# Altium footprint library PcbLib1.PcbLib: 12 footprints
Each footprint in its own frame and in the unit in brackets; x right, y up, seen from the top. Pads: shape width x height; smd on the part's side, far side on the other; paste and mask are expansions set on the pad; w line width, h text height; cw(c..) or ccw(c..) is an arc to the next point about the centre after c.
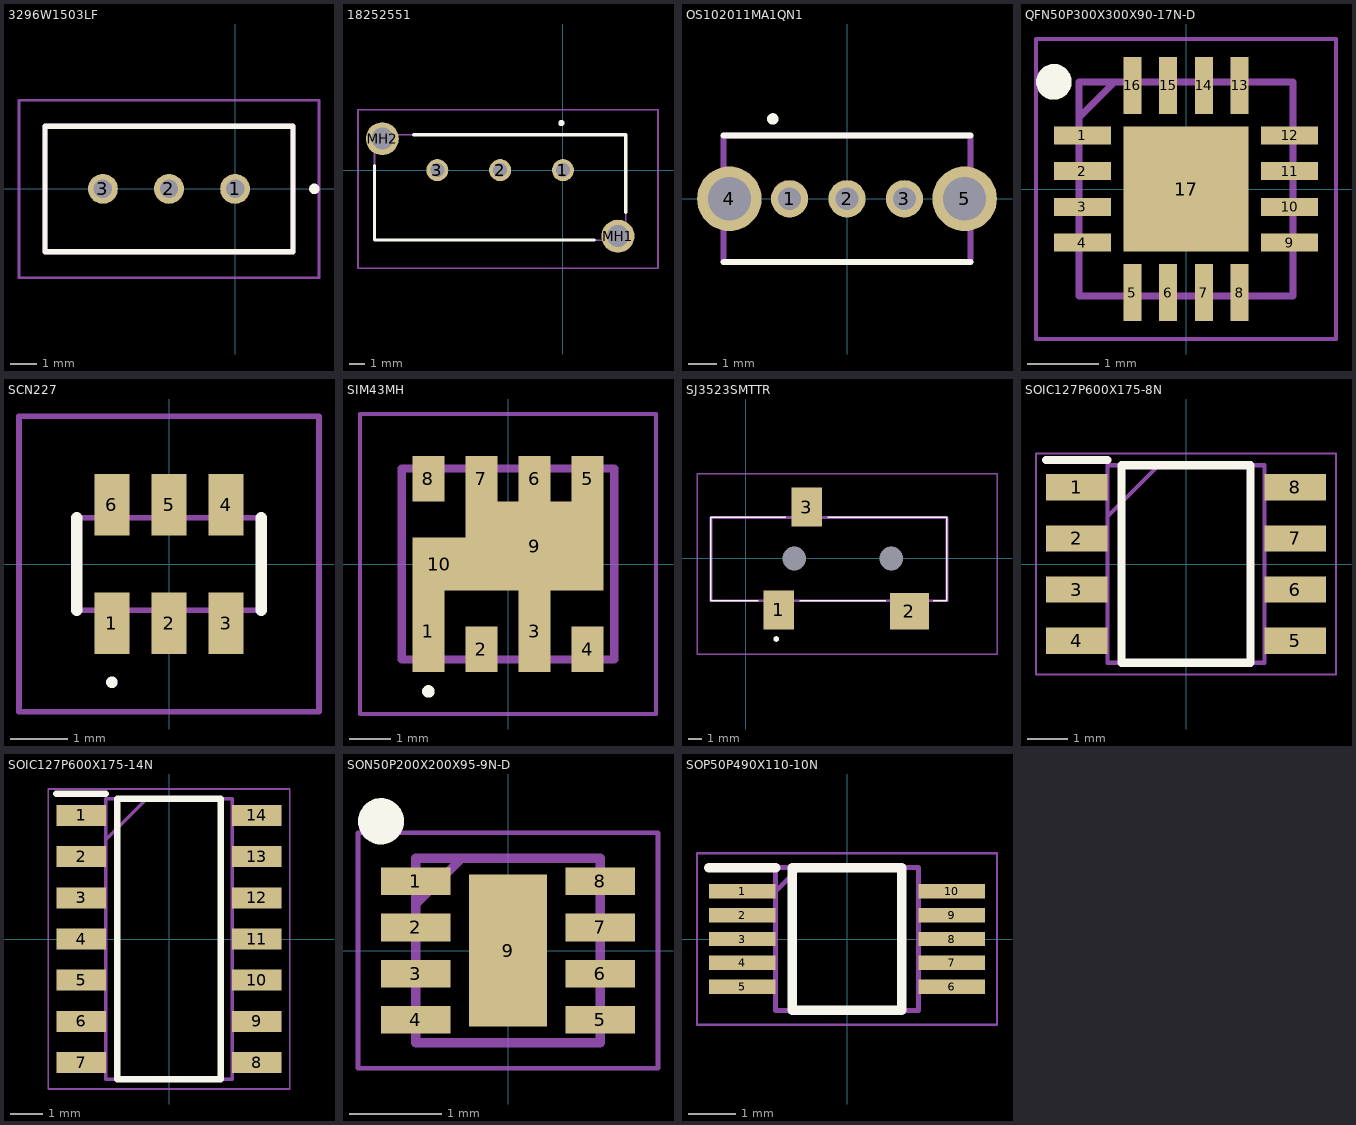
[diagram p0: the footprints below, top view; thin cyan lines are the x and y axes]

## 3296W1503LF [mm]
pads (3):
  round 1.15 hole 0.71: 1(0,0) 2(-2.54,0) 3(-5.08,0)
Top Overlay:
  lines w0.2: -7.305,-2.42 2.225,-2.42 2.225,2.41 -7.305,2.41 -7.305,-2.42 ; 2.946,0 ccw(c3.046,0) 3.146,0 ccw(c3.046,0) 2.946,0
Mechanical 13:
  lines w0.2: -7.305,-2.42 2.225,-2.42 2.225,2.41 -7.305,2.41 -7.305,-2.42
Mechanical 15:
  lines w0.1: -8.305,-3.42 3.225,-3.42 3.225,3.41 -8.305,3.41 -8.305,-3.42
3D body "3296W-1-103LF.stp": height 11.54, standoff -6.41, extent -7.305,-2.415 2.22,2.411

## 18252551 [mm]
pads (5):
  round 1.4 hole 0.9: 1(0,0) 2(-4,0) 3(-8,0)
  round 2.1 hole 1.4: MH1(3.5,-4.2) MH2(-11.5,2)
Top Overlay:
  lines w0.2: -12,0.3 -12,-4.45 2,-4.45 ; -9.5,2.25 4,2.25 4,-2.7 ; -0.2,3 ccw(c-0.1,3) 0,3 ccw(c-0.1,3) -0.2,3
Mechanical 13:
  lines w0.1: -12,-4.45 -12,2.25 4,2.25 4,-4.45 -12,-4.45
Mechanical 15:
  lines w0.1: -13.05,-6.25 -13.05,3.85 6.05,3.85 6.05,-6.25 -13.05,-6.25
3D body "1825255-1.stp": height 12.41, standoff -3.09, extent -11.96,-4.55 4.04,2.15

## OS102011MA1QN1 [mm]
pads (5):
  round 1.3 hole 0.8: 1(-2,0) 2(0,0) 3(2,0)
  round 2.25 hole 1.5: 4(-4.1,0) 5(4.1,0)
Top Overlay:
  circle w0.2: c-2.583,2.781 r0.099
  lines w0.2: -4.3,-2.2 4.3,-2.2 ; -4.3,2.2 4.3,2.2
Mechanical 13:
  lines w0.2: -4.3,-2.2 -4.3,2.2 4.3,2.2 4.3,-2.2 -4.3,-2.2
3D body "OS102011MS2QN1.stp": height 2.15, standoff -2.15, extent -4.3,-7.098 4.3,4.4

## PCBComponent_1 [mm]

## QFN50P300X300X90-17N-D [mm]
pads (17):
  rect 0.8x0.25 smd: 1(-1.45,0.75) 2(-1.45,0.25) 3(-1.45,-0.25) 4(-1.45,-0.75) 9(1.45,-0.75) 10(1.45,-0.25) 11(1.45,0.25) 12(1.45,0.75)
  rect 0.25x0.8 smd: 5(-0.75,-1.45) 6(-0.25,-1.45) 7(0.25,-1.45) 8(0.75,-1.45) 13(0.75,1.45) 14(0.25,1.45) 15(-0.25,1.45) 16(-0.75,1.45)
  rect 1.75x1.75 smd: 17(0,0)
Top Overlay:
  circle w0.25: c-1.85,1.5 r0.125
Mechanical 13:
  lines w0.1: -1.5,1 -1,1.5 ; -1.5,-1.5 1.5,-1.5 1.5,1.5 -1.5,1.5 -1.5,-1.5
Mechanical 15:
  lines w0.05: -2.1,-2.1 2.1,-2.1 2.1,2.1 -2.1,2.1 -2.1,-2.1
3D body "TQP3M9038.stp": height 0.9, standoff 0, extent -1.55,-1.55 1.55,1.55

## SCN227 [mm]
pads (6):
  rect 0.61x1.07 smd: 1(-0.99,-1.025) 2(0,-1.025) 3(0.99,-1.025) 4(0.99,1.025) 5(0,1.025) 6(-0.99,1.025)
Top Overlay:
  lines w0.1: -0.99,-2.1 ccw(c-0.99,-2.05) -0.99,-2 ccw(c-0.99,-2.05) -0.99,-2.1
  lines w0.2: -1.6,-0.8 -1.6,0.8 ; 1.6,-0.8 1.6,0.8
Mechanical 13:
  lines w0.1: -1.6,-0.8 -1.6,0.8 1.6,0.8 1.6,-0.8 -1.6,-0.8
Mechanical 15:
  lines w0.1: -2.6,-2.56 -2.6,2.56 2.6,2.56 2.6,-2.56 -2.6,-2.56
3D body "SCN-2-27+.stp": height 1.17, standoff 0, extent -1.6,-1.499 1.6,1.499

## SIM43MH [mm]
pads (10):
  rect 0.76x1.95 smd: 1(-1.905,-1.615) 3(0.635,-1.615)
  rect 0.76x1.09 smd: 2(-0.635,-2.045) 4(1.905,-2.045) 5(1.905,2.045) 6(0.635,2.045) 7(-0.635,2.045) 8(-1.905,2.045)
  rect 3.3x2.14 smd: 9(0.635,0.43)
  rect 1.27x1.28 smd: 10(-1.65,0)
Top Overlay:
  lines w0.2: -1.905,-3.1 cw(c-1.905,-3.05) -1.905,-3 ; -1.905,-3.1 ccw(c-1.905,-3.05) -1.905,-3 ; -1.905,-3.1 cw(c-1.905,-3.05) -1.905,-3
Mechanical 13:
  lines w0.2: -2.54,-2.285 -2.54,2.285 2.54,2.285 2.54,-2.285 -2.54,-2.285
Mechanical 15:
  lines w0.1: -3.54,-3.59 -3.54,3.59 3.54,3.59 3.54,-3.59 -3.54,-3.59
3D body "SIM-43MH+.stp": height 2.21, standoff 0, extent -2.54,-2.285 2.54,2.285

## SJ3523SMTTR [mm]
pads (5):
  rect 2.2x2.8 smd: 1(2.4,-3.7) 3(4.4,3.7)
  rect 2.8x2.6 smd: 2(11.8,-3.8)
  round 0.85 hole 1.7 unplated: MH1(3.5,0) MH2(10.5,0)
Top Overlay:
  lines w0.1: 0.9,-3.05 -2.5,-3.05 -2.5,2.95 2.9,2.95 ; 3.9,-3.05 10.1,-3.05 ; 5.9,2.95 14.5,2.95 ; 13.5,-3.05 14.5,-3.05 14.5,-1.5 14.5,3
  lines w0.2: 2.1,-5.8 cw(c2.2,-5.8) 2.3,-5.8 cw(c2.2,-5.8) 2.1,-5.8
Mechanical 13:
  lines w0.2: -2.5,-3.05 -2.5,2.95 14.5,2.95 14.5,-3.05 -2.5,-3.05
Mechanical 15:
  lines w0.1: -3.5,-6.9 -3.5,6.1 18.1,6.1 18.1,-6.9 -3.5,-6.9
3D body "SJ-3523-SMT-TR.stp": height 5.11, standoff -0.69, extent -2.11,-4.52 14.89,4.48

## SOIC127P600X175-8N [mm]
pads (8):
  rect 1.528x0.65 smd: 1(-2.711,1.905) 2(-2.711,0.635) 3(-2.711,-0.635) 4(-2.711,-1.905) 5(2.711,-1.905) 6(2.711,-0.635) 7(2.711,0.635) 8(2.711,1.905)
Top Overlay:
  lines w0.2: -3.475,2.58 -1.948,2.58 ; -1.598,-2.452 -1.598,2.452 1.598,2.452 1.598,-2.452 -1.598,-2.452
Mechanical 13:
  lines w0.1: -1.948,1.182 -0.678,2.452 ; -1.948,-2.452 -1.948,2.452 1.948,2.452 1.948,-2.452 -1.948,-2.452
Mechanical 15:
  lines w0.05: -3.725,-2.75 -3.725,2.75 3.725,2.75 3.725,-2.75 -3.725,-2.75
3D body "TLE2426CDR.stp": height 1.63, standoff 0, extent -3.011,-2.451 3.011,2.451

## SOIC127P600X175-14N [mm]
pads (14):
  rect 1.525x0.65 smd: 1(-2.712,3.81) 2(-2.712,2.54) 3(-2.712,1.27) 4(-2.712,0) 5(-2.712,-1.27) 6(-2.712,-2.54) 7(-2.712,-3.81) 8(2.712,-3.81) 9(2.712,-2.54) 10(2.712,-1.27) 11(2.712,0) 12(2.712,1.27) 13(2.712,2.54) 14(2.712,3.81)
Top Overlay:
  lines w0.2: -3.475,4.485 -1.95,4.485 ; -1.6,-4.325 -1.6,4.325 1.6,4.325 1.6,-4.325 -1.6,-4.325
Mechanical 13:
  lines w0.1: -1.95,3.055 -0.68,4.325 ; -1.95,-4.325 -1.95,4.325 1.95,4.325 1.95,-4.325 -1.95,-4.325
Mechanical 15:
  lines w0.05: -3.725,-4.625 -3.725,4.625 3.725,4.625 3.725,-4.625 -3.725,-4.625
3D body "OPA4197ID.stp": height 1.75, standoff 0, extent -3.013,-4.315 3.013,4.335

## SON50P200X200X95-9N-D [mm]
pads (9):
  rect 0.75x0.3 smd: 1(-1,0.75) 2(-1,0.25) 3(-1,-0.25) 4(-1,-0.75) 5(1,-0.75) 6(1,-0.25) 7(1,0.25) 8(1,0.75)
  rect 0.85x1.65 smd: 9(0,0)
Top Overlay:
  circle w0.25: c-1.375,1.4 r0.125
Mechanical 13:
  lines w0.1: -1,0.5 -0.5,1 ; -1,-1 -1,1 1,1 1,-1 -1,-1
Mechanical 15:
  lines w0.05: -1.625,-1.275 -1.625,1.275 1.625,1.275 1.625,-1.275 -1.625,-1.275
3D body "QPL9547TR7.stp": height 0.85, standoff 0, extent -1.014,-1 1.014,1

## SOP50P490X110-10N [mm]
pads (10):
  rect 1.4x0.3 smd: 1(-2.2,1) 2(-2.2,0.5) 3(-2.2,0) 4(-2.2,-0.5) 5(-2.2,-1) 6(2.2,-1) 7(2.2,-0.5) 8(2.2,0) 9(2.2,0.5) 10(2.2,1)
Top Overlay:
  lines w0.2: -2.9,1.5 -1.5,1.5 ; -1.15,-1.5 -1.15,1.5 1.15,1.5 1.15,-1.5 -1.15,-1.5
Mechanical 13:
  lines w0.1: -1.5,1 -1,1.5 ; -1.5,-1.5 -1.5,1.5 1.5,1.5 1.5,-1.5 -1.5,-1.5
Mechanical 15:
  lines w0.05: -3.15,-1.8 -3.15,1.8 3.15,1.8 3.15,-1.8 -3.15,-1.8
3D body "DAC80501MDGSR.stp": height 1.1, standoff 0, extent -2.463,-1.5 2.463,1.5